# Altium schematic symbol library CubeNode Footprint.SCHLIB: 1 symbol
Pins are listed as number, name and electrical type; pins without a type are passive.

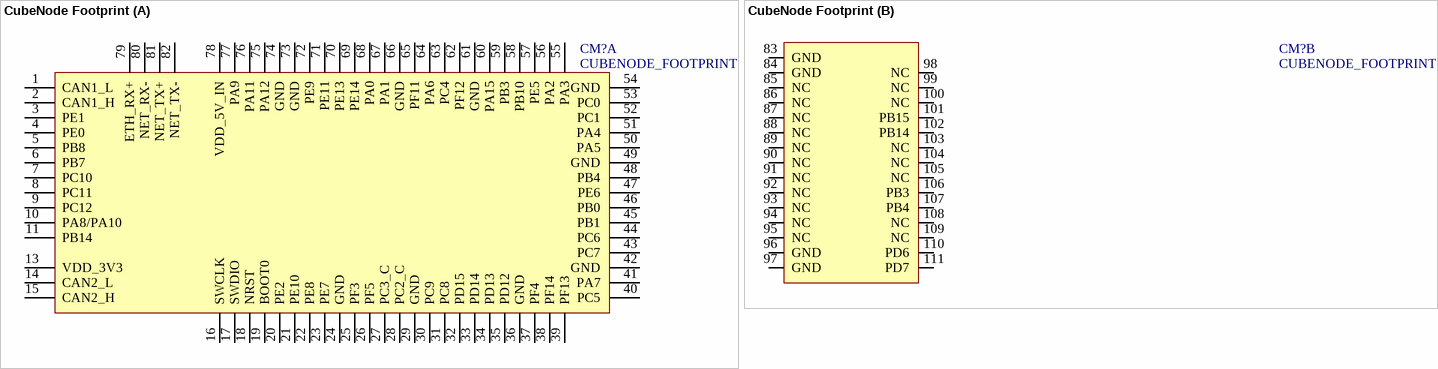
[diagram p0: symbol CubeNode Footprint]

## CubeNode Footprint
designator CM?, comment CUBENODE_FOOTPRINT  (no BOM)
footprint CANMOD_V2
part A pins: 1 CAN1_L, 2 CAN1_H, 3 PE1, 4 PE0, 5 PB8, 6 PB7, 7 PC10, 8 PC11, 9 PC12, 10 PA8/PA10, 11 PB14, 13 VDD_3V3, 14 CAN2_L, 15 CAN2_H, 16 SWCLK, 17 SWDIO, 18 NRST, 19 BOOT0, 20 PE2, 21 PE10, 22 PE8, 23 PE7, 24 GND, 25 PF3, 26 PF5, 27 PC3_C, 28 PC2_C, 29 GND, 30 PC9, 31 PC8, 32 PD15, 33 PD14, 34 PD13, 35 PD12, 36 GND, 37 PF4, 38 PF14, 39 PF13, 40 PC5, 41 PA7, 42 GND, 43 PC7, 44 PC6, 45 PB1, 46 PB0, 47 PE6, 48 PB4, 49 GND, 50 PA5, 51 PA4, 52 PC1, 53 PC0, 54 GND, 55 PA3, 56 PA2, 57 PE5, 58 PB10, 59 PB3, 60 PA15, 61 GND, 62 PF12, 63 PC4, 64 PA6, 65 PF11, 66 GND, 67 PA1, 68 PA0, 69 PE14, 70 PE13, 71 PE11, 72 PE9, 73 GND, 74 GND, 75 PA12, 76 PA11, 77 PA9, 78 VDD_5V_IN, 79 ETH_RX+, 80 NET_RX-, 81 NET_TX+, 82 NET_TX-
part B pins: 83 GND, 84 GND, 85 NC, 86 NC, 87 NC, 88 NC, 89 NC, 90 NC, 91 NC, 92 NC, 93 NC, 94 NC, 95 NC, 96 GND, 97 GND, 98 NC, 99 NC, 100 NC, 101 PB15, 102 PB14, 103 NC, 104 NC, 105 NC, 106 PB3, 107 PB4, 108 NC, 109 NC, 110 PD6, 111 PD7